# Altium footprint library BZX5-S.PcbLib: 1 footprints
Each footprint in its own frame and in the unit in brackets; x right, y up, seen from the top. Pads: shape width x height; smd on the part's side, far side on the other; paste and mask are expansions set on the pad; w line width, h text height; cw(c..) or ccw(c..) is an arc to the next point about the centre after c.
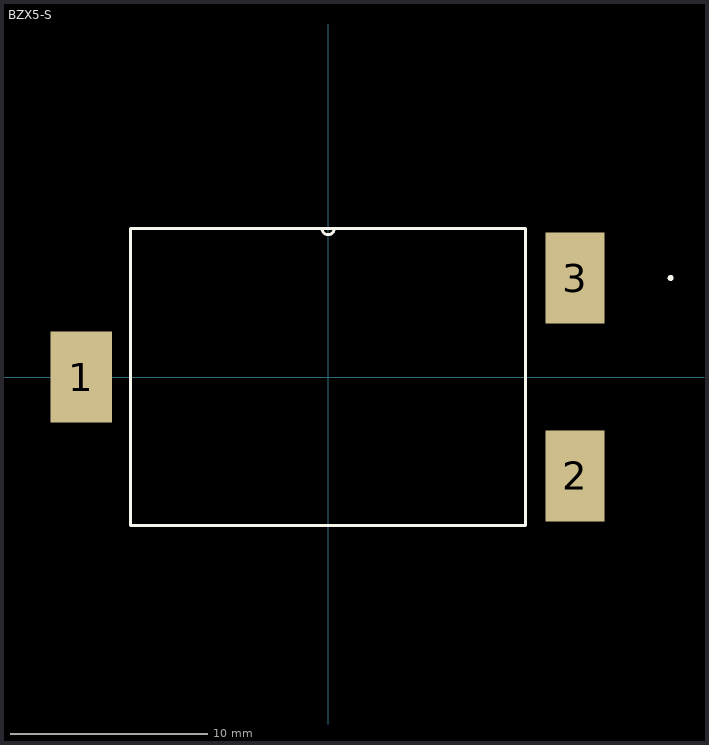
[diagram p0: the footprint, top view; thin cyan lines are the x and y axes]

## BZX5-S [mil]
pads (3):
  rect 122x181 smd: 1(-492,0)
  rect 118x181 smd: 2(492,-197) 3(492,197)
Top Overlay:
  circle w6: c682.53,197.4 r3
  lines w6: -12,295.5 ccw(c0,295.5) 12,295.5 ; -393.5,-295.5 393.5,-295.5 393.5,295.5 -393.5,295.5 -393.5,-295.5
Mechanical 13:
  circle w0: c682.53,197.4 r3
  lines w0: -12,295.5 ccw(c0,295.5) 12,295.5
  lines w1: -393.5,-295.5 393.5,-295.5 393.5,295.5 -393.5,295.5 -393.5,-295.5
3D body: height 228.35, standoff 0, extent -393.5,-295.5 393.5,295.5
3D body: height 94.49, standoff 0, extent 390,-285 490,-105
3D body: height 94.49, standoff 0, extent 390,105 490,285
3D body: height 10, standoff 0, extent -230,35 -230,35
3D body: height 94.49, standoff 0, extent -490,-90 -390,90